# EAGLE library part LTC3200-5 (library LITTLEBITS140915)
Linear LTC3200-5 Low Noise, Regulated Charge Pump DC/DC Converter
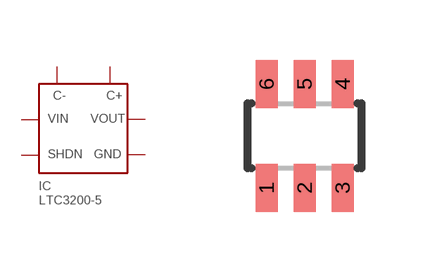
[diagram p2: symbol with the pads of SOT23-6; footprint SOT23-6]

Designator prefix IC

## LTC3200-5  [SOT23-6]
1  VOUT
2  GND
3  SHDN
4  C-
5  VIN
6  C+

## Footprint SOT23-6 (pad centres in mm)
smd 0.55 x 1.2: 1 -0.95,-1.3; 2 0,-1.3; 3 0.95,-1.3; 4 0.95,1.3; 5 0,1.3; 6 -0.95,1.3